# EAGLE library part HT9170D-18SOPLF (library Holtek_By_element14_Batch_1)
DTMF Receiver
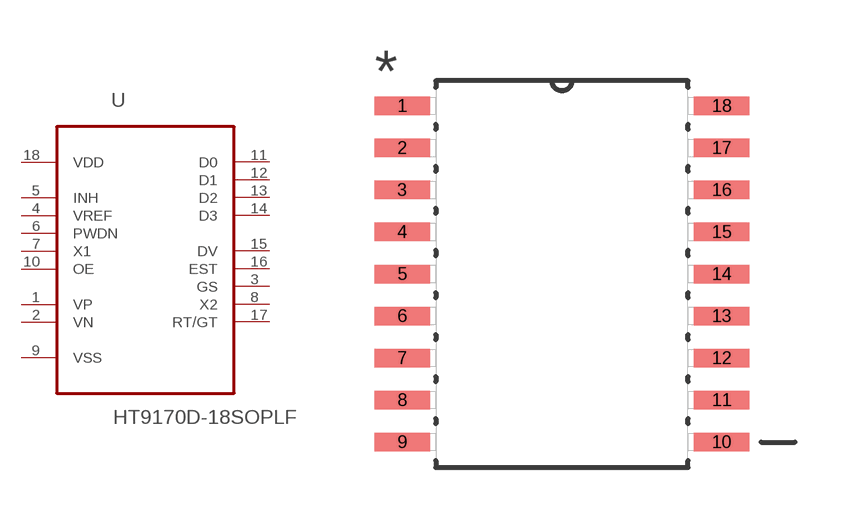
[diagram p3: symbol with the pads of SOP127P1064X265-18N; footprint SOP127P1064X265-18N]

Designator prefix U

## HT9170D-18SOPLF (MPN: HT9170D-18SOPLF; OC_FARNELL: 1420879; OC_NEWARK: 53M7847; PACKAGE: SOP-18; SUPPLIER: HOLTEK)  [SOP127P1064X265-18N]
1  VP  in
2  VN  in
3  GS  out
4  VREF  in
5  INH  in
6  PWDN  in
7  X1  in
8  X2  out
9  VSS  pwr
10  OE  in
11  D0  out
12  D1  out
13  D2  out
14  D3  out
15  DV  out
16  EST  out
17  RT/GT
18  VDD  pwr

## Footprint SOP127P1064X265-18N (pad centres in mm)
smd 1.676 x 0.559: 1 -4.826,5.08; 2 -4.826,3.81; 3 -4.826,2.54; 4 -4.826,1.27; 5 -4.826,0; 6 -4.826,-1.27; 7 -4.826,-2.54; 8 -4.826,-3.81; 9 -4.826,-5.08; 10 4.826,-5.08; 11 4.826,-3.81; 12 4.826,-2.54; 13 4.826,-1.27; 14 4.826,0; 15 4.826,1.27; 16 4.826,2.54; 17 4.826,3.81; 18 4.826,5.08